# EAGLE library part L9110 (library L9110)
Check availability <https://pricing.snapeda.com/parts/L9110%20%28SOP-8%29/Asic/view-part?ref=eda>
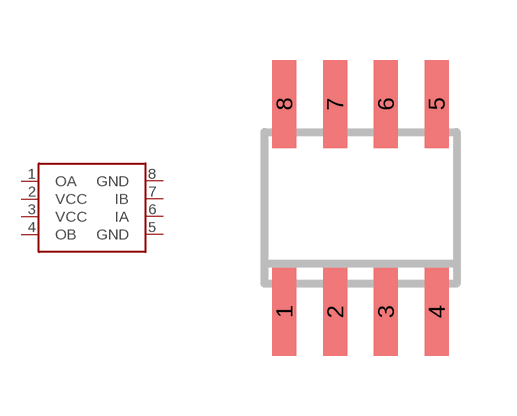
[diagram p0: symbol with the pads of SO-08; footprint SO-08]

Designator prefix -

## L9110SO8 (Availability: Not in stock; Description: Motor control driver chip; MF: Asic; MP: L9110 (SOP-8); Package: Package; Price: None)  [SO-08]
1  OA  out
2  VCC  pwr
3  VCC  pwr
4  OB  out
5  GND  pwr
6  IA  in
7  IB  in
8  GND  pwr

## Footprint SO-08 (pad centres in mm)
Small Outline Narrow Plastic Gull Wing 150-mil body, package type SN
smd 0.6 x 2.2: 1 -1.905,-2.6; 2 -0.635,-2.6; 3 0.635,-2.6; 4 1.905,-2.6; 5 1.905,2.6; 6 0.635,2.6; 7 -0.635,2.6; 8 -1.905,2.6